# Altium footprint library HP48GX1.PcbLib: 21 footprints (part 1 of 2)
Each footprint in its own frame and in the unit in brackets; x right, y up, seen from the top. Pads: shape width x height; smd on the part's side, far side on the other; paste and mask are expansions set on the pad; w line width, h text height; cw(c..) or ccw(c..) is an arc to the next point about the centre after c.
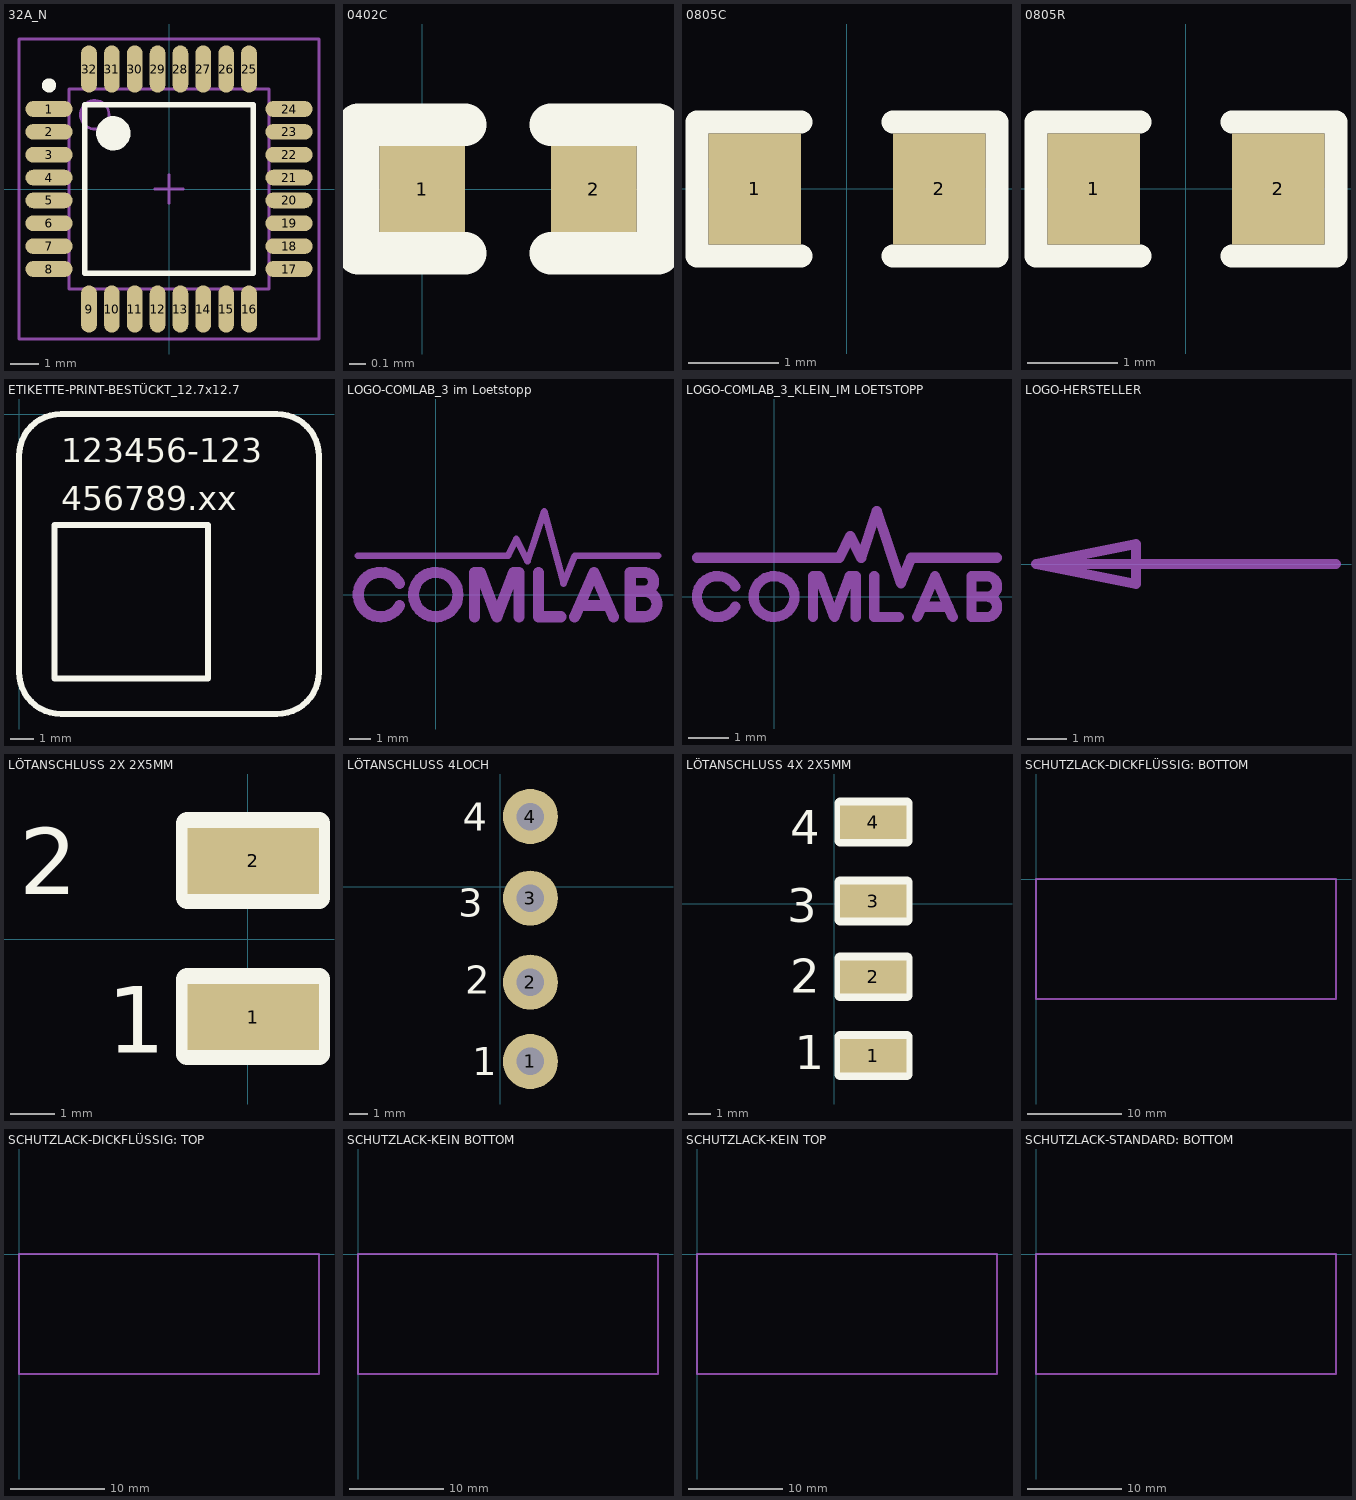
[diagram p0: the footprints below, top view; thin cyan lines are the x and y axes]

## 32A_N [mm] "Thin QFP, 32-Leads, Body 7x7mm, Pitch 0.8mm, IPC Medium Density"
height 1.2
pads (32):
  oval 1.65x0.55 smd: 1(-4.2,2.8) 2(-4.2,2) 3(-4.2,1.2) 4(-4.2,0.4) 5(-4.2,-0.4) 6(-4.2,-1.2) 7(-4.2,-2) 8(-4.2,-2.8) 17(4.2,-2.8) 18(4.2,-2) 19(4.2,-1.2) 20(4.2,-0.4) 21(4.2,0.4) 22(4.2,1.2) 23(4.2,2) 24(4.2,2.8)
  oval 0.55x1.65 smd: 9(-2.8,-4.2) 10(-2,-4.2) 11(-1.2,-4.2) 12(-0.4,-4.2) 13(0.4,-4.2) 14(1.2,-4.2) 15(2,-4.2) 16(2.8,-4.2) 25(2.8,4.2) 26(2,4.2) 27(1.2,4.2) 28(0.4,4.2) 29(-0.4,4.2) 30(-1.2,4.2) 31(-2,4.2) 32(-2.8,4.2)
Top Overlay:
  circle w0.6: c-1.95,1.95 r0.3
  circle w0.25: c-4.2,3.625 r0.125
  lines w0.2: -2.95,-2.95 2.95,-2.95 2.95,2.95 -2.95,2.95 -2.95,-2.95
Mechanical 13:
  circle w0.1: c-2.6,2.6 r0.5
  lines w0.1: -3.5,-3.5 3.5,-3.5 3.5,3.5 -3.5,3.5 -3.5,-3.5
Mechanical 15:
  lines w0.1: -0.5,0 0.5,0 ; 0,-0.5 0,0.5 ; -5.25,-5.25 5.25,-5.25 5.25,5.25 -5.25,5.25 -5.25,-5.25
3D body: height 1.2, standoff 0, extent -3.5,-3.5 3.5,3.5

## 0402C [mil]
pads (2):
  rect 20x20 smd: 1(0,0) 2(40,0)
Top Overlay:
  lines w10: 10,-15 -15,-15 -15,15 10,15 ; 30,-15 55,-15 55,15 30,15
3D body "0402C.stp": height 22, standoff 0, extent 0,-10 40,10

## 0805C [mil]
pads (2):
  rect 40x48 smd: 1(-40,0) 2(40,0)
Top Overlay:
  lines w10: -20,-29 -65,-29 -65,29 -20,29 ; 20,-29 65,-29 65,29 20,29
3D body "0805C.stp": height 50, standoff 0, extent -40,-25 40,25

## 0805R [mil]
pads (2):
  rect 40x48 smd: 1(-40,0) 2(40,0)
Top Overlay:
  lines w10: -20,-29 -65,-29 -65,29 -20,29 ; 20,-29 65,-29 65,29 20,29
3D body "0805R.stp": height 20, standoff 0, extent -40,-25 40,25

## ETIKETTE-PRINT-BESTÜCKT_12.7x12.7 [mm]
Top Overlay:
  lines w0.254: 0,-10.922 ccw(c1.778,-10.922) 1.778,-12.7 10.922,-12.7 ccw(c10.922,-10.922) 12.7,-10.922 12.7,-1.778 ccw(c10.922,-1.778) 10.922,0 1.778,0 ccw(c1.778,-1.778) 0,-1.778 0,-10.922 ; 1.5,-11.2 1.5,-4.7 8,-4.7 8,-11.2 1.5,-11.2
  text "456789.xx" at 1.778,-4.064 h1.02
  text "123456-123" at 1.778,-2.032 h1.02
3D body "ETIKETTE-PRINT-BESTÜCKT_12.7x12.7.stp": height 0.11, standoff 0, extent 0,-12.7 12.7,0

## LOGO-COMLAB_3 im Loetstopp [mm]
Top Solder:
  circle w0.508: c0,0 r1.016
  lines w0.305: -3.556,1.778 3.302,1.778 3.683,2.54 4.191,1.524 4.953,3.81 5.842,0.508 6.35,1.778 10.16,1.778
  lines w0.508: -1.651,-0.508 cw(c-2.531,0) -1.651,0.508 ; 1.778,-1.016 1.778,1.016 2.032,1.016 2.794,-1.016 3.556,1.016 3.81,1.016 3.81,-1.016 ; 4.699,1.016 4.699,-1.016 5.715,-1.016 ; 6.35,-1.016 7.239,1.016 8.128,-1.016 ; 6.604,-0.508 7.874,-0.508 ; 8.89,0.152 9.525,0.152 ; 9.525,0.152 ccw(c9.525,0.584) 9.525,1.016 8.89,1.016 8.89,-1.016 9.525,-1.016 ccw(c9.525,-0.432) 9.525,0.152

## LOGO-COMLAB_3_KLEIN_IM LOETSTOPP [mm]
Top Solder:
  circle w0.254: c0,0 r0.508
  lines w0.254: -1.905,0.965 1.626,0.965 1.895,1.504 2.164,0.965 2.552,2.13 3.152,0.331 3.405,0.965 ; -0.965,-0.254 cw(c-1.405,0) -0.965,0.254 ; 0.965,-0.508 0.965,0.508 1.118,0.508 1.499,-0.508 1.88,0.508 2.032,0.508 2.032,-0.508 ; 2.489,0.508 2.489,-0.508 3.099,-0.508 ; 3.404,0.965 5.537,0.965 ; 3.553,-0.507 3.997,0.508 4.442,-0.509 ; 3.664,-0.254 4.331,-0.254 ; 4.902,0 5.283,0 ; 5.283,0 cw(c5.283,-0.254) 5.283,-0.508 4.902,-0.508 4.902,0.508 5.283,0.508 cw(c5.283,0.254) 5.283,0

## LOGO-HERSTELLER [mm]
Mechanical 12:
  lines w0.254: -5.08,0 -12.7,0 ; -12.7,0 -10.16,-0.508 -10.16,0.508 -12.7,0
  text "Manufacturer" at 0,0 h2.54
  text "Logo / Date," at 0,-4.572 h2.54
  text "UL / 94-V0" at 0,-9.144 h2.54
  text "on TopSolder" at 0,-13.208 h2.54

## LÖTANSCHLUSS 2X 2X5MM [mm]
pads (2):
  rect 3x1.5 smd paste-1.27: 1(0.127,-1.778) 2(0.127,1.778)
Top Overlay:
  lines w0.508: -1.373,-2.618 -1.373,-0.918 1.627,-0.918 1.627,-2.618 -1.373,-2.618 ; -1.373,0.938 1.627,0.938 1.627,2.638 -1.373,2.638 -1.373,0.938
  text "2" at -5.207,1.016 h1.52
  text "1" at -3.2,-2.591 h1.52

## LÖTANSCHLUSS 4LOCH [mm]
pads (4):
  round 3 hole 1.5: 1(1.651,-9.525) 2(1.651,-5.207) 3(1.651,-0.635) 4(1.651,3.81)
Top Overlay:
  text "3" at -2.286,-1.651 h1.52
  text "4" at -2.032,3.048 h1.52
  text "1" at -1.524,-10.287 h1.52
  text "2" at -1.905,-5.842 h1.52

## LÖTANSCHLUSS 4X 2X5MM [mm]
pads (4):
  rect 3x1.5 smd paste-1.27: 1(1.778,-6.858) 2(1.778,-3.302) 3(1.778,0.127) 4(1.778,3.683)
Top Overlay:
  lines w0.508: 0.278,-7.698 3.278,-7.698 3.278,-5.998 0.278,-5.998 0.278,-7.698 ; 0.278,-4.142 0.278,-2.442 3.278,-2.442 3.278,-4.142 0.278,-4.142 ; 0.278,-0.713 3.278,-0.713 3.278,0.987 0.278,0.987 0.278,-0.713 ; 0.278,2.843 0.278,4.543 3.278,4.543 3.278,2.843 0.278,2.843
  text "2" at -1.981,-4.013 h1.52
  text "1" at -1.778,-7.468 h1.52
  text "4" at -1.981,2.692 h1.52
  text "3" at -2.108,-0.838 h1.52

## SCHUTZLACK-DICKFLÜSSIG: BOTTOM [mm]
Mechanical 16:
  lines w0.254: 0,-12.7 31.75,-12.7 31.75,0 0,0 0,-12.7
Mechanical 23:
  text "viscous, transparent," at 1.27,-7.62 h2.03
  text "Coating Bottom:" at 1.27,-3.81 h2.03
  text "fluorescent" at 1.27,-11.43 h2.03

## SCHUTZLACK-DICKFLÜSSIG: TOP [mm]
Mechanical 16:
  lines w0.254: 0,-12.7 0,0 31.75,0 31.75,-12.7 0,-12.7
Mechanical 20:
  text "viscous, transparent," at 1.27,-7.62 h2.03
  text "Coating Top:" at 1.27,-3.81 h2.03
  text "fluorescent" at 1.27,-11.43 h2.03

## SCHUTZLACK-KEIN BOTTOM [mm]
Mechanical 16:
  lines w0.254: 0,-12.7 31.75,-12.7 31.75,0 0,0 0,-12.7
Mechanical 24:
  text "Red marked /" at 1.27,-7.62 h2.03
  text "NO Coating Bottom:" at 1.27,-3.81 h2.03
  text "hatched area" at 1.27,-11.43 h2.03

## SCHUTZLACK-KEIN TOP [mm]
Mechanical 16:
  lines w0.254: 0,-12.7 31.75,-12.7 31.75,0 0,0 0,-12.7
Mechanical 21:
  text "hatched area" at 1.27,-11.43 h2.03
  text "Red marked /" at 1.27,-7.62 h2.03
  text "NO Coating Top:" at 1.27,-3.81 h2.03

## SCHUTZLACK-STANDARD: BOTTOM [mm]
Mechanical 16:
  lines w0.254: 0,-12.7 31.75,-12.7 31.75,0 0,0 0,-12.7
Mechanical 22:
  text "fluorescent" at 1.27,-11.43 h2.03
  text "Coating Bottom:" at 1.27,-3.81 h2.03
  text "default, transparent," at 1.27,-7.62 h2.03